# EAGLE library part BQ24060 (library 0SBLib)
1A SINGLE-CHIP Li-Ion/Li-Pol CHARGE MANAGEMENT IC WITH THERMAL REGULATION
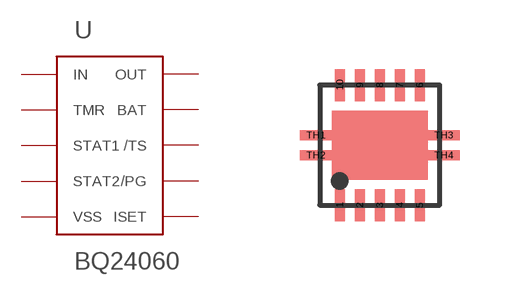
[diagram p1: symbol with the pads of DRC10; footprint DRC10]

Designator prefix -

## BQ24060DRC  [DRC10]
1  IN
2  TMR
3  STAT1
4  STAT2
5  VSS
6  ISET
7  /PG
8  /TS
9  BAT
10  OUT

## Footprint DRC10 (pad centres in mm)
smd 0.25 x 0.8: 1 -1,-1.5; 2 -0.5,-1.5; 3 0,-1.5; 4 0.5,-1.5; 5 1,-1.5; 6 1,1.5; 7 0.5,1.5; 8 0,1.5; 9 -0.5,1.5; 10 -1,1.5
smd 0.8 x 0.25: TH1 -1.6,0.25; TH2 -1.6,-0.25; TH3 1.6,0.25; TH4 1.6,-0.25